# EAGLE library part CFAL12832-W-B1 (library OpenMotics)
OLED Module - White - 128 x 32 pixels - Controller SSD1305
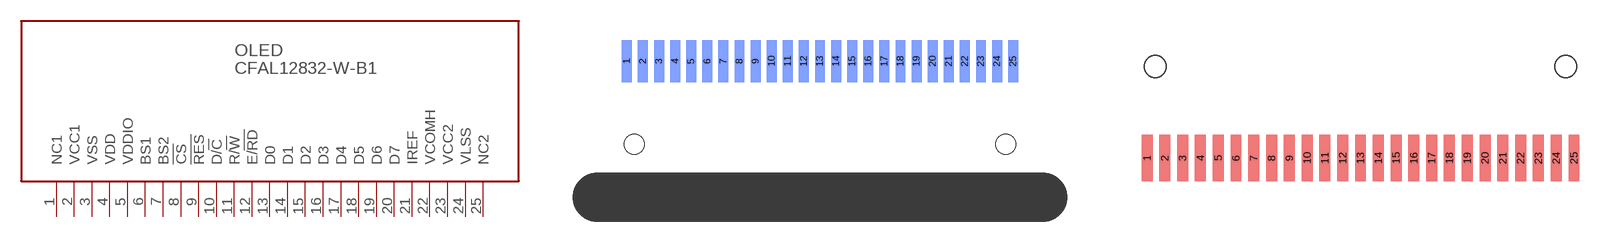
[diagram p34: symbol with the pads of CFAL12832-W-B1-BACK; footprints CFAL12832-W-B1-BACK, CFAL12832-W-B1]

Designator prefix OLED

## CFAL12832-W-B1BACK  [CFAL12832-W-B1-BACK]
1  NC1  nc
2  VCC1  pwr
3  VSS  pwr
4  VDD  pwr
5  VDDIO  pwr
6  BS1  in
7  BS2  in
8  !CS  in
9  !RES  in
10  D/!C  in
11  R/!W  in
12  E/!RD  in
13  D0
14  D1
15  D2
16  D3
17  D4
18  D5
19  D6
20  D7
21  IREF  in
22  VCOMH  out
23  VCC2  pwr
24  VLSS  pwr
25  NC2  nc

## CFAL12832-W-B1FRONT  [CFAL12832-W-B1]
Pads as for CFAL12832-W-B1-BACK

## Footprint CFAL12832-W-B1-BACK (pad centres in mm)
smd 0.4 x 1.7 bottom: 1 -7.8,0; 2 -7.15,0; 3 -6.5,0; 4 -5.85,0; 5 -5.2,0; 6 -4.55,0; 7 -3.9,0; 8 -3.25,0; 9 -2.6,0; 10 -1.95,0; 11 -1.3,0; 12 -0.65,0; 13 0,0; 14 0.65,0; 15 1.3,0; 16 1.95,0; 17 2.6,0; 18 3.25,0; 19 3.9,0; 20 4.55,0; 21 5.2,0; 22 5.85,0; 23 6.5,0; 24 7.15,0; 25 7.8,0
hole 0.8 at -7.5,-3.35
hole 0.8 at 7.5,-3.35

## Footprint CFAL12832-W-B1 (pad centres in mm)
smd 0.4 x 1.7: 1 -7.8,0; 2 -7.15,0; 3 -6.5,0; 4 -5.85,0; 5 -5.2,0; 6 -4.55,0; 7 -3.9,0; 8 -3.25,0; 9 -2.6,0; 10 -1.95,0; 11 -1.3,0; 12 -0.65,0; 13 0,0; 14 0.65,0; 15 1.3,0; 16 1.95,0; 17 2.6,0; 18 3.25,0; 19 3.9,0; 20 4.55,0; 21 5.2,0; 22 5.85,0; 23 6.5,0; 24 7.15,0; 25 7.8,0
hole 0.8 at -7.5,3.35
hole 0.8 at 7.5,3.35